# Altium integrated library Linear Technology Operational Amplifiers (LT1000).IntLib: 2280 symbols (part 16 of 79)
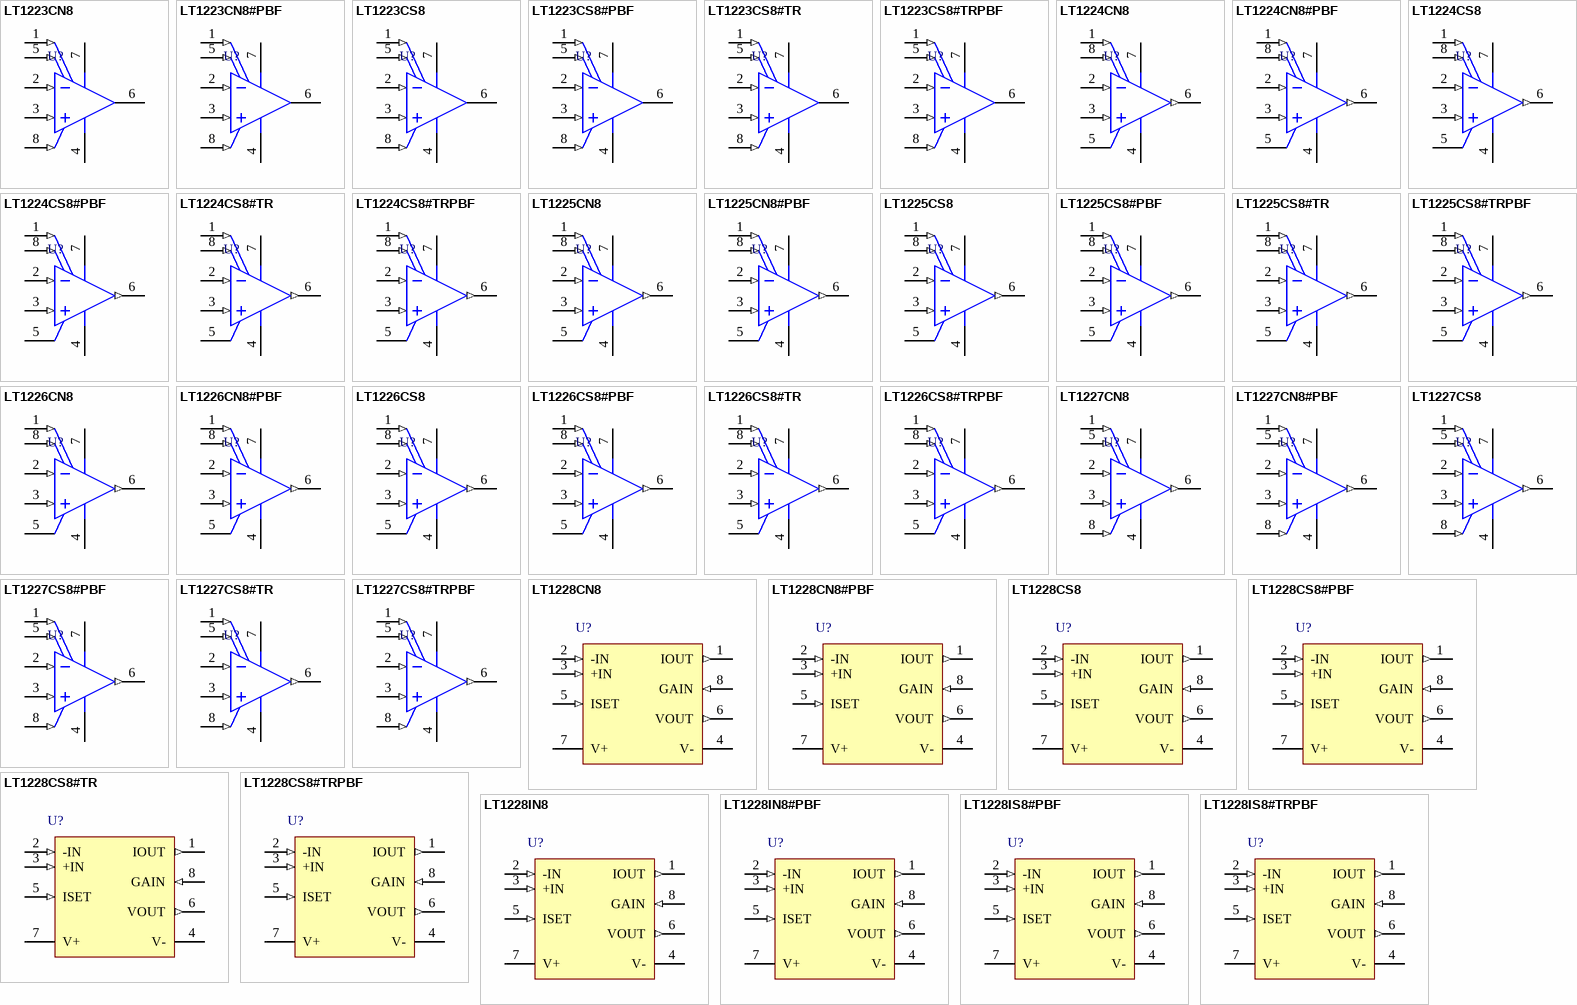
[diagram p120: symbols LT1223CN8 to LT1228IS8#TRPBF]

## LT1227CS8#PBF
designator U?
Single Channel, High Voltage CFA, 140 MHz Typical GBW, 1100 V/us Typical SR, 4 to 36 V, 8-Pin SOIC (S8-8), Commercial, Pb-Free; Linear Technology Part Number: LT1227; Manufacturer: Linear Technology; PartNumber: LT1227CS8#PBF; Channels (#): 1; GBW (MHz) Typical: 140; Is (mA) Typical: 10; SR (V/us) Typical: 1100; Vos (mV) Typical: 3; Vs Max (V): 36; Vs Min (V): 4; PackageVersion: Rev G; PackageReference: LT-S8-8; PackageDescription: 8-Pin Plastic Small Outline, Body 4.9 x 3.9 mm, Pitch 1.27 mm; Supplier 1: Digi-Key; Supplier Part Number 1: LT1227CS8#PBF-ND; Supplier 2: Farnell; Supplier Part Number 2: 9560319; Supplier 3: Newark; Supplier Part Number 3: 57M2839; RoHS: Pb-Free; Type: CFA; Mounting Technology: Surface Mount; ComponentLink1Description: Manufacturer URL; ComponentLink1URL: http://www.linear.com/; ComponentLink2Description: Datasheet; ComponentLink2URL: http://cds.linear.com/docs/en/datasheet/1227fb.pdf; ComponentLink3Description: Package Specification; ComponentLink3URL: http://cds.linear.com/docs/en/packaging/05081610_G_SO8.pdf
footprint LT-S8-8_N (SOIC, 8-Leads, Body 4.9x3.9mm, Pitch 1.27mm, IPC Medium Density)
footprint LT-S8-8_L (SOIC, 8-Leads, Body 4.9x3.9mm, Pitch 1.27mm, IPC High Density)
footprint LT-S8-8_M (SOIC, 8-Leads, Body 4.9x3.9mm, Pitch 1.27mm, IPC Low Density)
pins: 1 NULL (in), 2 -IN (in), 3 +IN (in), 4 V- (power), 5 NULL (in), 6 OUT (out), 7 V+ (power), 8 SHDN (in)

## LT1227CS8#TR
designator U?
Single Channel, High Voltage CFA, 140 MHz Typical GBW, 1100 V/us Typical SR, 4 to 36 V, 8-Pin SOIC (S8-8), Commercial, Reel; Linear Technology Part Number: LT1227; Manufacturer: Linear Technology; PartNumber: LT1227CS8#TR; Channels (#): 1; GBW (MHz) Typical: 140; Is (mA) Typical: 10; SR (V/us) Typical: 1100; Vos (mV) Typical: 3; Vs Max (V): 36; Vs Min (V): 4; PackageVersion: Rev G; PackageReference: LT-S8-8; PackageDescription: 8-Pin Plastic Small Outline, Body 4.9 x 3.9 mm, Pitch 1.27 mm; Supplier 1: Digi-Key; Supplier Part Number 1: LT1227CS8#TR-ND; Packing: Reel; Type: CFA; Mounting Technology: Surface Mount; ComponentLink1Description: Manufacturer URL; ComponentLink1URL: http://www.linear.com/; ComponentLink2Description: Datasheet; ComponentLink2URL: http://cds.linear.com/docs/en/datasheet/1227fb.pdf; ComponentLink3Description: Package Specification; ComponentLink3URL: http://cds.linear.com/docs/en/packaging/05081610_G_SO8.pdf
footprint LT-S8-8_N (SOIC, 8-Leads, Body 4.9x3.9mm, Pitch 1.27mm, IPC Medium Density)
footprint LT-S8-8_L (SOIC, 8-Leads, Body 4.9x3.9mm, Pitch 1.27mm, IPC High Density)
footprint LT-S8-8_M (SOIC, 8-Leads, Body 4.9x3.9mm, Pitch 1.27mm, IPC Low Density)
pins: 1 NULL (in), 2 -IN (in), 3 +IN (in), 4 V- (power), 5 NULL (in), 6 OUT (out), 7 V+ (power), 8 SHDN (in)

## LT1227CS8#TRPBF
designator U?
Single Channel, High Voltage CFA, 140 MHz Typical GBW, 1100 V/us Typical SR, 4 to 36 V, 8-Pin SOIC (S8-8), Commercial, Pb-Free, Reel; Linear Technology Part Number: LT1227; Manufacturer: Linear Technology; PartNumber: LT1227CS8#TRPBF; Channels (#): 1; GBW (MHz) Typical: 140; Is (mA) Typical: 10; SR (V/us) Typical: 1100; Vos (mV) Typical: 3; Vs Max (V): 36; Vs Min (V): 4; PackageVersion: Rev G; PackageReference: LT-S8-8; PackageDescription: 8-Pin Plastic Small Outline, Body 4.9 x 3.9 mm, Pitch 1.27 mm; Supplier 1: Digi-Key; Supplier Part Number 1: LT1227CS8#TRPBF-ND; Supplier 2: Newark; Supplier Part Number 2: 57M2841; Packing: Reel; RoHS: Pb-Free; Type: CFA; Mounting Technology: Surface Mount; ComponentLink1Description: Manufacturer URL; ComponentLink1URL: http://www.linear.com/; ComponentLink2Description: Datasheet; ComponentLink2URL: http://cds.linear.com/docs/en/datasheet/1227fb.pdf; ComponentLink3Description: Package Specification; ComponentLink3URL: http://cds.linear.com/docs/en/packaging/05081610_G_SO8.pdf
footprint LT-S8-8_N (SOIC, 8-Leads, Body 4.9x3.9mm, Pitch 1.27mm, IPC Medium Density)
footprint LT-S8-8_L (SOIC, 8-Leads, Body 4.9x3.9mm, Pitch 1.27mm, IPC High Density)
footprint LT-S8-8_M (SOIC, 8-Leads, Body 4.9x3.9mm, Pitch 1.27mm, IPC Low Density)
pins: 1 NULL (in), 2 -IN (in), 3 +IN (in), 4 V- (power), 5 NULL (in), 6 OUT (out), 7 V+ (power), 8 SHDN (in)

## LT1228CN8
designator U?
Single Channel, CFA with Gain Control, 100 MHz Typical GBW, 500 V/us Typical SR, 4 to 36 V, 8-Pin DIP (N8-8), Commercial; Linear Technology Part Number: LT1228; Manufacturer: Linear Technology; PartNumber: LT1228CN8; Channels (#): 1; GBW (MHz) Typical: 100; Is (mA) Typical: 9; SR (V/us) Typical: 500; Vos (mV) Typical: 0.5; Vs Max (V): 36; Vs Min (V): 4; DatasheetVersion: Rev. D; PackageVersion: Rev I; PackageReference: LT-N8-8; PackageDescription: 8-Lead PDIP, Body 10.16 x 6.48 mm, Pitch 2.54 mm; Supplier 1: Digi-Key; Supplier Part Number 1: LT1228CN8-ND; Type: CFA; Mounting Technology: Surface Mount; ComponentLink1Description: Manufacturer URL; ComponentLink1URL: http://www.linear.com/; ComponentLink2Description: Datasheet; ComponentLink2URL: http://cds.linear.com/docs/en/datasheet/1228fd.pdf; ComponentLink3Description: Package Specification; ComponentLink3URL: http://cds.linear.com/docs/en/packaging/05081510_I_N8.pdf
footprint LT-N8-8 (DIP, 8-Leads, Body 10.16x6.48mm, Pitch 2.54mm)
pins: 1 IOUT (out), 2 -IN (in), 3 +IN (in), 4 V- (power), 5 ISET (in), 6 VOUT (out), 7 V+ (power), 8 GAIN (in)

## LT1228CN8#PBF
designator U?
Single Channel, CFA with Gain Control, 100 MHz Typical GBW, 500 V/us Typical SR, 4 to 36 V, 8-Pin DIP (N8-8), Commercial, Pb-Free; Linear Technology Part Number: LT1228; Manufacturer: Linear Technology; PartNumber: LT1228CN8#PBF; Channels (#): 1; GBW (MHz) Typical: 100; Is (mA) Typical: 9; SR (V/us) Typical: 500; Vos (mV) Typical: 0.5; Vs Max (V): 36; Vs Min (V): 4; DatasheetVersion: Rev. D; PackageVersion: Rev I; PackageReference: LT-N8-8; PackageDescription: 8-Lead PDIP, Body 10.16 x 6.48 mm, Pitch 2.54 mm; Supplier 1: Digi-Key; Supplier Part Number 1: LT1228CN8#PBF-ND; Supplier 2: Farnell; Supplier Part Number 2: 9560327; RoHS: Pb-Free; Type: CFA; Mounting Technology: Through Hole; ComponentLink1Description: Manufacturer URL; ComponentLink1URL: http://www.linear.com/; ComponentLink2Description: Datasheet; ComponentLink2URL: http://cds.linear.com/docs/en/datasheet/1228fd.pdf; ComponentLink3Description: Package Specification; ComponentLink3URL: http://cds.linear.com/docs/en/packaging/05081510_I_N8.pdf
footprint LT-N8-8 (DIP, 8-Leads, Body 10.16x6.48mm, Pitch 2.54mm)
pins: 1 IOUT (out), 2 -IN (in), 3 +IN (in), 4 V- (power), 5 ISET (in), 6 VOUT (out), 7 V+ (power), 8 GAIN (in)

## LT1228CS8
designator U?
Single Channel, CFA with Gain Control, 100 MHz Typical GBW, 500 V/us Typical SR, 4 to 36 V, 8-Pin SOIC (S8-8), Commercial; Linear Technology Part Number: LT1228; Manufacturer: Linear Technology; PartNumber: LT1228CS8; Channels (#): 1; GBW (MHz) Typical: 100; Is (mA) Typical: 9; SR (V/us) Typical: 500; Vos (mV) Typical: 0.5; Vs Max (V): 36; Vs Min (V): 4; DatasheetVersion: Rev. D; PackageVersion: Rev G; PackageReference: LT-S8-8; PackageDescription: 8-Pin Plastic Small Outline, Body 4.9 x 3.9 mm, Pitch 1.27 mm; Supplier 1: Digi-Key; Supplier Part Number 1: LT1228CS8-ND; Type: CFA; Mounting Technology: Surface Mount; ComponentLink1Description: Manufacturer URL; ComponentLink1URL: http://www.linear.com/; ComponentLink2Description: Datasheet; ComponentLink2URL: http://cds.linear.com/docs/en/datasheet/1228fd.pdf; ComponentLink3Description: Package Specification; ComponentLink3URL: http://cds.linear.com/docs/en/packaging/05081610_G_SO8.pdf
footprint LT-S8-8_N (SOIC, 8-Leads, Body 4.9x3.9mm, Pitch 1.27mm, IPC Medium Density)
footprint LT-S8-8_L (SOIC, 8-Leads, Body 4.9x3.9mm, Pitch 1.27mm, IPC High Density)
footprint LT-S8-8_M (SOIC, 8-Leads, Body 4.9x3.9mm, Pitch 1.27mm, IPC Low Density)
pins: 1 IOUT (out), 2 -IN (in), 3 +IN (in), 4 V- (power), 5 ISET (in), 6 VOUT (out), 7 V+ (power), 8 GAIN (in)

## LT1228CS8#PBF
designator U?
Single Channel, CFA with Gain Control, 100 MHz Typical GBW, 500 V/us Typical SR, 4 to 36 V, 8-Pin SOIC (S8-8), Commercial, Pb-Free; Linear Technology Part Number: LT1228; Manufacturer: Linear Technology; PartNumber: LT1228CS8#PBF; Channels (#): 1; GBW (MHz) Typical: 100; Is (mA) Typical: 9; SR (V/us) Typical: 500; Vos (mV) Typical: 0.5; Vs Max (V): 36; Vs Min (V): 4; DatasheetVersion: Rev. D; PackageVersion: Rev G; PackageReference: LT-S8-8; PackageDescription: 8-Pin Plastic Small Outline, Body 4.9 x 3.9 mm, Pitch 1.27 mm; Supplier 1: Digi-Key; Supplier Part Number 1: LT1228CS8#PBF-ND; Supplier 2: Farnell; Supplier Part Number 2: 9560335; Supplier 3: Newark; Supplier Part Number 3: 57M2845; RoHS: Pb-Free; Type: CFA; Mounting Technology: Surface Mount; ComponentLink1Description: Manufacturer URL; ComponentLink1URL: http://www.linear.com/; ComponentLink2Description: Datasheet; ComponentLink2URL: http://cds.linear.com/docs/en/datasheet/1228fd.pdf; ComponentLink3Description: Package Specification; ComponentLink3URL: http://cds.linear.com/docs/en/packaging/05081610_G_SO8.pdf
footprint LT-S8-8_N (SOIC, 8-Leads, Body 4.9x3.9mm, Pitch 1.27mm, IPC Medium Density)
footprint LT-S8-8_L (SOIC, 8-Leads, Body 4.9x3.9mm, Pitch 1.27mm, IPC High Density)
footprint LT-S8-8_M (SOIC, 8-Leads, Body 4.9x3.9mm, Pitch 1.27mm, IPC Low Density)
pins: 1 IOUT (out), 2 -IN (in), 3 +IN (in), 4 V- (power), 5 ISET (in), 6 VOUT (out), 7 V+ (power), 8 GAIN (in)

## LT1228CS8#TR
designator U?
Single Channel, CFA with Gain Control, 100 MHz Typical GBW, 500 V/us Typical SR, 4 to 36 V, 8-Pin SOIC (S8-8), Commercial, Reel; Linear Technology Part Number: LT1228; Manufacturer: Linear Technology; PartNumber: LT1228CS8#TR; Channels (#): 1; GBW (MHz) Typical: 100; Is (mA) Typical: 9; SR (V/us) Typical: 500; Vos (mV) Typical: 0.5; Vs Max (V): 36; Vs Min (V): 4; DatasheetVersion: Rev. D; PackageVersion: Rev G; PackageReference: LT-S8-8; PackageDescription: 8-Pin Plastic Small Outline, Body 4.9 x 3.9 mm, Pitch 1.27 mm; Supplier 1: Digi-Key; Supplier Part Number 1: LT1228CS8#TR-ND; Packing: Reel; Type: CFA; Mounting Technology: Surface Mount; ComponentLink1Description: Manufacturer URL; ComponentLink1URL: http://www.linear.com/; ComponentLink2Description: Datasheet; ComponentLink2URL: http://cds.linear.com/docs/en/datasheet/1228fd.pdf; ComponentLink3Description: Package Specification; ComponentLink3URL: http://cds.linear.com/docs/en/packaging/05081610_G_SO8.pdf
footprint LT-S8-8_N (SOIC, 8-Leads, Body 4.9x3.9mm, Pitch 1.27mm, IPC Medium Density)
footprint LT-S8-8_L (SOIC, 8-Leads, Body 4.9x3.9mm, Pitch 1.27mm, IPC High Density)
footprint LT-S8-8_M (SOIC, 8-Leads, Body 4.9x3.9mm, Pitch 1.27mm, IPC Low Density)
pins: 1 IOUT (out), 2 -IN (in), 3 +IN (in), 4 V- (power), 5 ISET (in), 6 VOUT (out), 7 V+ (power), 8 GAIN (in)

## LT1228CS8#TRPBF
designator U?
Single Channel, CFA with Gain Control, 100 MHz Typical GBW, 500 V/us Typical SR, 4 to 36 V, 8-Pin SOIC (S8-8), Commercial, Pb-Free, Reel; Linear Technology Part Number: LT1228; Manufacturer: Linear Technology; PartNumber: LT1228CS8#TRPBF; Channels (#): 1; GBW (MHz) Typical: 100; Is (mA) Typical: 9; SR (V/us) Typical: 500; Vos (mV) Typical: 0.5; Vs Max (V): 36; Vs Min (V): 4; DatasheetVersion: Rev. D; PackageVersion: Rev G; PackageReference: LT-S8-8; PackageDescription: 8-Pin Plastic Small Outline, Body 4.9 x 3.9 mm, Pitch 1.27 mm; Supplier 1: Digi-Key; Supplier Part Number 1: LT1228CS8#TRPBF-ND; Packing: Reel; RoHS: Pb-Free; Type: CFA; Mounting Technology: Surface Mount; ComponentLink1Description: Manufacturer URL; ComponentLink1URL: http://www.linear.com/; ComponentLink2Description: Datasheet; ComponentLink2URL: http://cds.linear.com/docs/en/datasheet/1228fd.pdf; ComponentLink3Description: Package Specification; ComponentLink3URL: http://cds.linear.com/docs/en/packaging/05081610_G_SO8.pdf
footprint LT-S8-8_N (SOIC, 8-Leads, Body 4.9x3.9mm, Pitch 1.27mm, IPC Medium Density)
footprint LT-S8-8_L (SOIC, 8-Leads, Body 4.9x3.9mm, Pitch 1.27mm, IPC High Density)
footprint LT-S8-8_M (SOIC, 8-Leads, Body 4.9x3.9mm, Pitch 1.27mm, IPC Low Density)
pins: 1 IOUT (out), 2 -IN (in), 3 +IN (in), 4 V- (power), 5 ISET (in), 6 VOUT (out), 7 V+ (power), 8 GAIN (in)

## LT1228IN8
designator U?
Single Channel, CFA with Gain Control, 100 MHz Typical GBW, 500 V/us Typical SR, 4 to 36 V, 8-Pin DIP (N8-8), Industrial; Linear Technology Part Number: LT1228; Manufacturer: Linear Technology; PartNumber: LT1228IN8; Channels (#): 1; GBW (MHz) Typical: 100; Is (mA) Typical: 9; SR (V/us) Typical: 500; Vos (mV) Typical: 0.5; Vs Max (V): 36; Vs Min (V): 4; DatasheetVersion: Rev. D; PackageVersion: Rev I; PackageReference: LT-N8-8; PackageDescription: 8-Lead PDIP, Body 10.16 x 6.48 mm, Pitch 2.54 mm; Type: CFA; Mounting Technology: Surface Mount; ComponentLink1Description: Manufacturer URL; ComponentLink1URL: http://www.linear.com/; ComponentLink2Description: Datasheet; ComponentLink2URL: http://cds.linear.com/docs/en/datasheet/1228fd.pdf; ComponentLink3Description: Package Specification; ComponentLink3URL: http://cds.linear.com/docs/en/packaging/05081510_I_N8.pdf
footprint LT-N8-8 (DIP, 8-Leads, Body 10.16x6.48mm, Pitch 2.54mm)
pins: 1 IOUT (out), 2 -IN (in), 3 +IN (in), 4 V- (power), 5 ISET (in), 6 VOUT (out), 7 V+ (power), 8 GAIN (in)

## LT1228IN8#PBF
designator U?
Single Channel, CFA with Gain Control, 100 MHz Typical GBW, 500 V/us Typical SR, 4 to 36 V, 8-Pin DIP (N8-8), Industrial, Pb-Free; Linear Technology Part Number: LT1228; Manufacturer: Linear Technology; PartNumber: LT1228IN8#PBF; Channels (#): 1; GBW (MHz) Typical: 100; Is (mA) Typical: 9; SR (V/us) Typical: 500; Vos (mV) Typical: 0.5; Vs Max (V): 36; Vs Min (V): 4; DatasheetVersion: Rev. D; PackageVersion: Rev I; PackageReference: LT-N8-8; PackageDescription: 8-Lead PDIP, Body 10.16 x 6.48 mm, Pitch 2.54 mm; Supplier 1: Digi-Key; Supplier Part Number 1: LT1228IN8#PBF-ND; RoHS: Pb-Free; Type: CFA; Mounting Technology: Through Hole; ComponentLink1Description: Manufacturer URL; ComponentLink1URL: http://www.linear.com/; ComponentLink2Description: Datasheet; ComponentLink2URL: http://cds.linear.com/docs/en/datasheet/1228fd.pdf; ComponentLink3Description: Package Specification; ComponentLink3URL: http://cds.linear.com/docs/en/packaging/05081510_I_N8.pdf
footprint LT-N8-8 (DIP, 8-Leads, Body 10.16x6.48mm, Pitch 2.54mm)
pins: 1 IOUT (out), 2 -IN (in), 3 +IN (in), 4 V- (power), 5 ISET (in), 6 VOUT (out), 7 V+ (power), 8 GAIN (in)

## LT1228IS8#PBF
designator U?
Single Channel, CFA with Gain Control, 100 MHz Typical GBW, 500 V/us Typical SR, 4 to 36 V, 8-Pin SOIC (S8-8), Industrial, Pb-Free; Linear Technology Part Number: LT1228; Manufacturer: Linear Technology; PartNumber: LT1228IS8#PBF; Channels (#): 1; GBW (MHz) Typical: 100; Is (mA) Typical: 9; SR (V/us) Typical: 500; Vos (mV) Typical: 0.5; Vs Max (V): 36; Vs Min (V): 4; DatasheetVersion: Rev. D; PackageVersion: Rev G; PackageReference: LT-S8-8; PackageDescription: 8-Pin Plastic Small Outline, Body 4.9 x 3.9 mm, Pitch 1.27 mm; Supplier 1: Digi-Key; Supplier Part Number 1: LT1228IS8#PBF-ND; RoHS: Pb-Free; Type: CFA; Mounting Technology: Surface Mount; ComponentLink1Description: Manufacturer URL; ComponentLink1URL: http://www.linear.com/; ComponentLink2Description: Datasheet; ComponentLink2URL: http://cds.linear.com/docs/en/datasheet/1228fd.pdf; ComponentLink3Description: Package Specification; ComponentLink3URL: http://cds.linear.com/docs/en/packaging/05081610_G_SO8.pdf
footprint LT-S8-8_N (SOIC, 8-Leads, Body 4.9x3.9mm, Pitch 1.27mm, IPC Medium Density)
footprint LT-S8-8_L (SOIC, 8-Leads, Body 4.9x3.9mm, Pitch 1.27mm, IPC High Density)
footprint LT-S8-8_M (SOIC, 8-Leads, Body 4.9x3.9mm, Pitch 1.27mm, IPC Low Density)
pins: 1 IOUT (out), 2 -IN (in), 3 +IN (in), 4 V- (power), 5 ISET (in), 6 VOUT (out), 7 V+ (power), 8 GAIN (in)

## LT1228IS8#TRPBF
designator U?
Single Channel, CFA with Gain Control, 100 MHz Typical GBW, 500 V/us Typical SR, 4 to 36 V, 8-Pin SOIC (S8-8), Industrial, Pb-Free, Reel; Linear Technology Part Number: LT1228; Manufacturer: Linear Technology; PartNumber: LT1228IS8#TRPBF; Channels (#): 1; GBW (MHz) Typical: 100; Is (mA) Typical: 9; SR (V/us) Typical: 500; Vos (mV) Typical: 0.5; Vs Max (V): 36; Vs Min (V): 4; DatasheetVersion: Rev. D; PackageVersion: Rev G; PackageReference: LT-S8-8; PackageDescription: 8-Pin Plastic Small Outline, Body 4.9 x 3.9 mm, Pitch 1.27 mm; Supplier 1: Digi-Key; Supplier Part Number 1: LT1228IS8#TRPBF-ND; Packing: Reel; RoHS: Pb-Free; Type: CFA; Mounting Technology: Surface Mount; ComponentLink1Description: Manufacturer URL; ComponentLink1URL: http://www.linear.com/; ComponentLink2Description: Datasheet; ComponentLink2URL: http://cds.linear.com/docs/en/datasheet/1228fd.pdf; ComponentLink3Description: Package Specification; ComponentLink3URL: http://cds.linear.com/docs/en/packaging/05081610_G_SO8.pdf
footprint LT-S8-8_N (SOIC, 8-Leads, Body 4.9x3.9mm, Pitch 1.27mm, IPC Medium Density)
footprint LT-S8-8_L (SOIC, 8-Leads, Body 4.9x3.9mm, Pitch 1.27mm, IPC High Density)
footprint LT-S8-8_M (SOIC, 8-Leads, Body 4.9x3.9mm, Pitch 1.27mm, IPC Low Density)
pins: 1 IOUT (out), 2 -IN (in), 3 +IN (in), 4 V- (power), 5 ISET (in), 6 VOUT (out), 7 V+ (power), 8 GAIN (in)

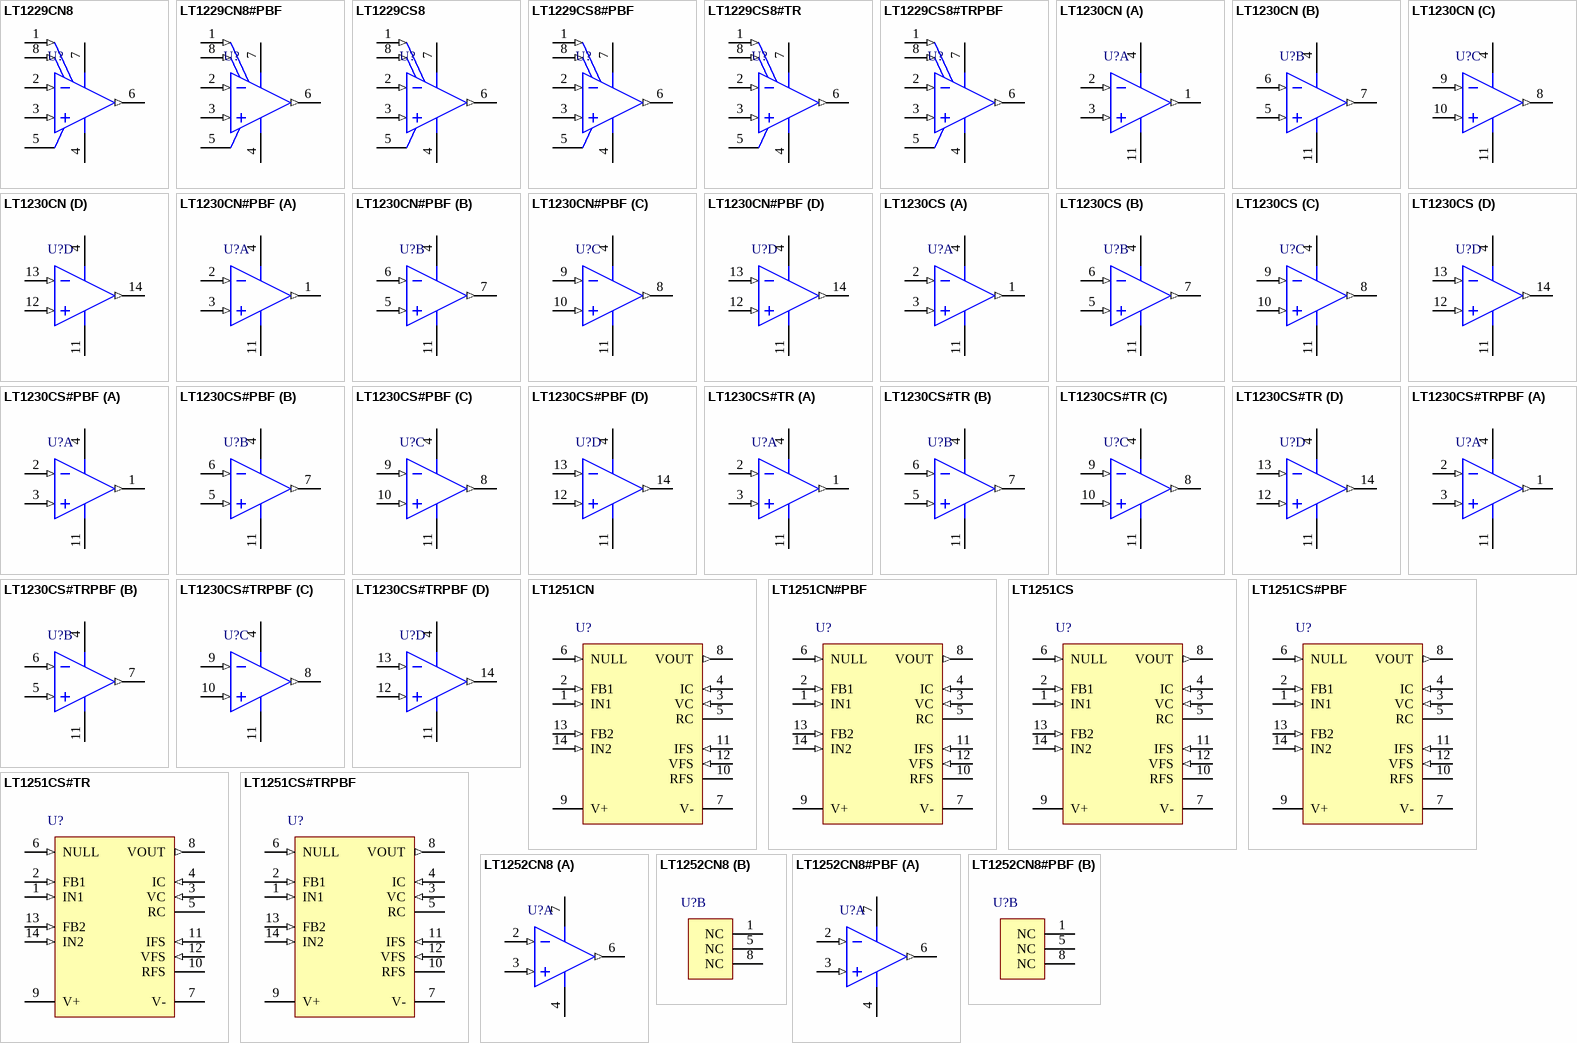
[diagram p22: symbols LT1229CN8 to LT1252CN8#PBF]

## LT1229CN8
designator U?
Dual Channel, General Purpose High Voltage CFA, 100 MHz Typical GBW, 700 V/us Typical SR, 4 to 36 V, 8-Pin DIP (N8-8), Commercial; Linear Technology Part Number: LT1229; Manufacturer: Linear Technology; PartNumber: LT1229CN8; Channels (#): 2; GBW (MHz) Typical: 100; Is (mA) Typical: 6; SR (V/us) Typical: 700; Vos (mV) Typical: 3; Vs Max (V): 36; Vs Min (V): 4; DatasheetVersion: Rev. B; PackageVersion: Rev I; PackageReference: LT-N8-8; PackageDescription: 8-Lead PDIP, Body 10.16 x 6.48 mm, Pitch 2.54 mm; Supplier 1: Digi-Key; Supplier Part Number 1: LT1229CN8-ND; Type: CFA; Mounting Technology: Surface Mount; ComponentLink1Description: Manufacturer URL; ComponentLink1URL: http://www.linear.com/; ComponentLink2Description: Datasheet; ComponentLink2URL: http://cds.linear.com/docs/en/datasheet/122930fa.pdf; ComponentLink3Description: Package Specification; ComponentLink3URL: http://cds.linear.com/docs/en/packaging/05081510_I_N8.pdf
footprint LT-N8-8 (DIP, 8-Leads, Body 10.16x6.48mm, Pitch 2.54mm)
pins: 1 NULL (in), 2 -IN (in), 3 +IN (in), 4 V- (power), 5 NC, 6 OUT (out), 7 V+ (power), 8 NULL (in)

## LT1229CN8#PBF
designator U?
Dual Channel, General Purpose High Voltage CFA, 100 MHz Typical GBW, 700 V/us Typical SR, 4 to 36 V, 8-Pin DIP (N8-8), Commercial, Pb-Free; Linear Technology Part Number: LT1229; Manufacturer: Linear Technology; PartNumber: LT1229CN8#PBF; Channels (#): 2; GBW (MHz) Typical: 100; Is (mA) Typical: 6; SR (V/us) Typical: 700; Vos (mV) Typical: 3; Vs Max (V): 36; Vs Min (V): 4; DatasheetVersion: Rev. B; PackageVersion: Rev I; PackageReference: LT-N8-8; PackageDescription: 8-Lead PDIP, Body 10.16 x 6.48 mm, Pitch 2.54 mm; Supplier 1: Digi-Key; Supplier Part Number 1: LT1229CN8#PBF-ND; Supplier 2: Farnell; Supplier Part Number 2: 1330625; Supplier 3: Newark; Supplier Part Number 3: 57M2850; RoHS: Pb-Free; Type: CFA; Mounting Technology: Through Hole; ComponentLink1Description: Manufacturer URL; ComponentLink1URL: http://www.linear.com/; ComponentLink2Description: Datasheet; ComponentLink2URL: http://cds.linear.com/docs/en/datasheet/122930fa.pdf; ComponentLink3Description: Package Specification; ComponentLink3URL: http://cds.linear.com/docs/en/packaging/05081510_I_N8.pdf
footprint LT-N8-8 (DIP, 8-Leads, Body 10.16x6.48mm, Pitch 2.54mm)
pins: 1 NULL (in), 2 -IN (in), 3 +IN (in), 4 V- (power), 5 NC, 6 OUT (out), 7 V+ (power), 8 NULL (in)

## LT1229CS8
designator U?
Dual Channel, General Purpose High Voltage CFA, 100 MHz Typical GBW, 700 V/us Typical SR, 4 to 36 V, 8-Pin SOIC (S8-8), Commercial; Linear Technology Part Number: LT1229; Manufacturer: Linear Technology; PartNumber: LT1229CS8; Channels (#): 2; GBW (MHz) Typical: 100; Is (mA) Typical: 6; SR (V/us) Typical: 700; Vos (mV) Typical: 3; Vs Max (V): 36; Vs Min (V): 4; DatasheetVersion: Rev. B; PackageVersion: Rev G; PackageReference: LT-S8-8; PackageDescription: 8-Pin Plastic Small Outline, Body 4.9 x 3.9 mm, Pitch 1.27 mm; Supplier 1: Digi-Key; Supplier Part Number 1: LT1229CS8-ND; Type: CFA; Mounting Technology: Surface Mount; ComponentLink1Description: Manufacturer URL; ComponentLink1URL: http://www.linear.com/; ComponentLink2Description: Datasheet; ComponentLink2URL: http://cds.linear.com/docs/en/datasheet/122930fa.pdf; ComponentLink3Description: Package Specification; ComponentLink3URL: http://cds.linear.com/docs/en/packaging/05081610_G_SO8.pdf
footprint LT-S8-8_N (SOIC, 8-Leads, Body 4.9x3.9mm, Pitch 1.27mm, IPC Medium Density)
footprint LT-S8-8_L (SOIC, 8-Leads, Body 4.9x3.9mm, Pitch 1.27mm, IPC High Density)
footprint LT-S8-8_M (SOIC, 8-Leads, Body 4.9x3.9mm, Pitch 1.27mm, IPC Low Density)
pins: 1 NULL (in), 2 -IN (in), 3 +IN (in), 4 V- (power), 5 NC, 6 OUT (out), 7 V+ (power), 8 NULL (in)

## LT1229CS8#PBF
designator U?
Dual Channel, General Purpose High Voltage CFA, 100 MHz Typical GBW, 700 V/us Typical SR, 4 to 36 V, 8-Pin SOIC (S8-8), Commercial, Pb-Free; Linear Technology Part Number: LT1229; Manufacturer: Linear Technology; PartNumber: LT1229CS8#PBF; Channels (#): 2; GBW (MHz) Typical: 100; Is (mA) Typical: 6; SR (V/us) Typical: 700; Vos (mV) Typical: 3; Vs Max (V): 36; Vs Min (V): 4; DatasheetVersion: Rev. B; PackageVersion: Rev G; PackageReference: LT-S8-8; PackageDescription: 8-Pin Plastic Small Outline, Body 4.9 x 3.9 mm, Pitch 1.27 mm; Supplier 1: Digi-Key; Supplier Part Number 1: LT1229CS8#PBF-ND; Supplier 2: Farnell; Supplier Part Number 2: 9560343; Supplier 3: Newark; Supplier Part Number 3: 57M2852; RoHS: Pb-Free; Type: CFA; Mounting Technology: Surface Mount; ComponentLink1Description: Manufacturer URL; ComponentLink1URL: http://www.linear.com/; ComponentLink2Description: Datasheet; ComponentLink2URL: http://cds.linear.com/docs/en/datasheet/122930fa.pdf; ComponentLink3Description: Package Specification; ComponentLink3URL: http://cds.linear.com/docs/en/packaging/05081610_G_SO8.pdf
footprint LT-S8-8_N (SOIC, 8-Leads, Body 4.9x3.9mm, Pitch 1.27mm, IPC Medium Density)
footprint LT-S8-8_L (SOIC, 8-Leads, Body 4.9x3.9mm, Pitch 1.27mm, IPC High Density)
footprint LT-S8-8_M (SOIC, 8-Leads, Body 4.9x3.9mm, Pitch 1.27mm, IPC Low Density)
pins: 1 NULL (in), 2 -IN (in), 3 +IN (in), 4 V- (power), 5 NC, 6 OUT (out), 7 V+ (power), 8 NULL (in)

## LT1229CS8#TR
designator U?
Dual Channel, General Purpose High Voltage CFA, 100 MHz Typical GBW, 700 V/us Typical SR, 4 to 36 V, 8-Pin SOIC (S8-8), Commercial, Reel; Linear Technology Part Number: LT1229; Manufacturer: Linear Technology; PartNumber: LT1229CS8#TR; Channels (#): 2; GBW (MHz) Typical: 100; Is (mA) Typical: 6; SR (V/us) Typical: 700; Vos (mV) Typical: 3; Vs Max (V): 36; Vs Min (V): 4; DatasheetVersion: Rev. B; PackageVersion: Rev G; PackageReference: LT-S8-8; PackageDescription: 8-Pin Plastic Small Outline, Body 4.9 x 3.9 mm, Pitch 1.27 mm; Supplier 1: Digi-Key; Supplier Part Number 1: LT1229CS8#TR-ND; Packing: Reel; Type: CFA; Mounting Technology: Surface Mount; ComponentLink1Description: Manufacturer URL; ComponentLink1URL: http://www.linear.com/; ComponentLink2Description: Datasheet; ComponentLink2URL: http://cds.linear.com/docs/en/datasheet/122930fa.pdf; ComponentLink3Description: Package Specification; ComponentLink3URL: http://cds.linear.com/docs/en/packaging/05081610_G_SO8.pdf
footprint LT-S8-8_N (SOIC, 8-Leads, Body 4.9x3.9mm, Pitch 1.27mm, IPC Medium Density)
footprint LT-S8-8_L (SOIC, 8-Leads, Body 4.9x3.9mm, Pitch 1.27mm, IPC High Density)
footprint LT-S8-8_M (SOIC, 8-Leads, Body 4.9x3.9mm, Pitch 1.27mm, IPC Low Density)
pins: 1 NULL (in), 2 -IN (in), 3 +IN (in), 4 V- (power), 5 NC, 6 OUT (out), 7 V+ (power), 8 NULL (in)

## LT1229CS8#TRPBF
designator U?
Dual Channel, General Purpose High Voltage CFA, 100 MHz Typical GBW, 700 V/us Typical SR, 4 to 36 V, 8-Pin SOIC (S8-8), Commercial, Pb-Free, Reel; Linear Technology Part Number: LT1229; Manufacturer: Linear Technology; PartNumber: LT1229CS8#TRPBF; Channels (#): 2; GBW (MHz) Typical: 100; Is (mA) Typical: 6; SR (V/us) Typical: 700; Vos (mV) Typical: 3; Vs Max (V): 36; Vs Min (V): 4; DatasheetVersion: Rev. B; PackageVersion: Rev G; PackageReference: LT-S8-8; PackageDescription: 8-Pin Plastic Small Outline, Body 4.9 x 3.9 mm, Pitch 1.27 mm; Supplier 1: Digi-Key; Supplier Part Number 1: LT1229CS8#TRPBF-ND; Packing: Reel; RoHS: Pb-Free; Type: CFA; Mounting Technology: Surface Mount; ComponentLink1Description: Manufacturer URL; ComponentLink1URL: http://www.linear.com/; ComponentLink2Description: Datasheet; ComponentLink2URL: http://cds.linear.com/docs/en/datasheet/122930fa.pdf; ComponentLink3Description: Package Specification; ComponentLink3URL: http://cds.linear.com/docs/en/packaging/05081610_G_SO8.pdf
footprint LT-S8-8_N (SOIC, 8-Leads, Body 4.9x3.9mm, Pitch 1.27mm, IPC Medium Density)
footprint LT-S8-8_L (SOIC, 8-Leads, Body 4.9x3.9mm, Pitch 1.27mm, IPC High Density)
footprint LT-S8-8_M (SOIC, 8-Leads, Body 4.9x3.9mm, Pitch 1.27mm, IPC Low Density)
pins: 1 NULL (in), 2 -IN (in), 3 +IN (in), 4 V- (power), 5 NC, 6 OUT (out), 7 V+ (power), 8 NULL (in)

## LT1230CN
designator U?
Quad Channel, General Purpose High Voltage CFA, 100 MHz Typical GBW, 700 V/us Typical SR, 4 to 36 V, 14-Pin DIP (N-14), Commercial; Linear Technology Part Number: LT1230; Manufacturer: Linear Technology; PartNumber: LT1230CN; Channels (#): 4; GBW (MHz) Typical: 100; Is (mA) Typical: 6; SR (V/us) Typical: 700; Vos (mV) Typical: 3; Vs Max (V): 36; DatasheetVersion: Rev. B; PackageVersion: Rev I; PackageReference: LT-N-14; PackageDescription: 14-Lead PDIP, Body 19.558 x 6.477 mm, Pitch 2.54 mm; Supplier 1: Digi-Key; Supplier Part Number 1: LT1230CN-ND; Type: CFA; Vs Min (V): 4; Mounting Technology: Surface Mount; ComponentLink1Description: Manufacturer URL; ComponentLink1URL: http://www.linear.com/; ComponentLink2Description: Datasheet; ComponentLink2URL: http://cds.linear.com/docs/en/datasheet/122930fa.pdf; ComponentLink3Description: Package Specification; ComponentLink3URL: http://cds.linear.com/docs/en/packaging/05081510_I_N14.pdf
footprint LT-N-14 (DIP, 14-Leads, Body 19.558x6.477mm, Pitch 2.54mm)
pins on every part: 4 V+ (power), 11 V- (power)
part A pins: 1 OUT A (out), 2 -IN A (in), 3 +IN A (in)
part B pins: 5 +IN B (in), 6 -IN B (in), 7 OUT B (out)
part C pins: 8 OUT C (out), 9 -IN C (in), 10 +IN C (in)
part D pins: 12 +IN D (in), 13 -IN D (in), 14 OUT D (out)

## LT1230CN#PBF
designator U?
Quad Channel, General Purpose High Voltage CFA, 100 MHz Typical GBW, 700 V/us Typical SR, 4 to 36 V, 14-Pin DIP (N-14), Commercial, Pb-Free; Linear Technology Part Number: LT1230; Manufacturer: Linear Technology; PartNumber: LT1230CN#PBF; Channels (#): 4; GBW (MHz) Typical: 100; Is (mA) Typical: 6; SR (V/us) Typical: 700; Vos (mV) Typical: 3; Vs Max (V): 36; DatasheetVersion: Rev. B; PackageVersion: Rev I; PackageReference: LT-N-14; PackageDescription: 14-Lead PDIP, Body 19.558 x 6.477 mm, Pitch 2.54 mm; Supplier 1: Digi-Key; Supplier Part Number 1: LT1230CN#PBF-ND; RoHS: Pb-Free; Type: CFA; Vs Min (V): 4; Mounting Technology: Through Hole; ComponentLink1Description: Manufacturer URL; ComponentLink1URL: http://www.linear.com/; ComponentLink2Description: Datasheet; ComponentLink2URL: http://cds.linear.com/docs/en/datasheet/122930fa.pdf; ComponentLink3Description: Package Specification; ComponentLink3URL: http://cds.linear.com/docs/en/packaging/05081510_I_N14.pdf
footprint LT-N-14 (DIP, 14-Leads, Body 19.558x6.477mm, Pitch 2.54mm)
pins on every part: 4 V+ (power), 11 V- (power)
part A pins: 1 OUT A (out), 2 -IN A (in), 3 +IN A (in)
part B pins: 5 +IN B (in), 6 -IN B (in), 7 OUT B (out)
part C pins: 8 OUT C (out), 9 -IN C (in), 10 +IN C (in)
part D pins: 12 +IN D (in), 13 -IN D (in), 14 OUT D (out)

## LT1230CS
designator U?
Quad Channel, General Purpose High Voltage CFA, 100 MHz Typical GBW, 700 V/us Typical SR, 4 to 36 V, 14-Pin SOIC (S-14), Commercial; Linear Technology Part Number: LT1230; Manufacturer: Linear Technology; PartNumber: LT1230CS; Channels (#): 4; GBW (MHz) Typical: 100; Is (mA) Typical: 6; SR (V/us) Typical: 700; Vos (mV) Typical: 3; Vs Max (V): 36; DatasheetVersion: Rev. B; PackageVersion: Rev G; PackageReference: LT-S-14; PackageDescription: 14-Lead Plastic Small Outline, Body 8.65 x 3.90 mm, Pitch 1.27 mm; Supplier 1: Newark; Supplier Part Number 1: 57M2857; Type: CFA; Vs Min (V): 4; Mounting Technology: Surface Mount; ComponentLink1Description: Manufacturer URL; ComponentLink1URL: http://www.linear.com/; ComponentLink2Description: Datasheet; ComponentLink2URL: http://cds.linear.com/docs/en/datasheet/122930fa.pdf; ComponentLink3Description: Package Specification; ComponentLink3URL: http://cds.linear.com/docs/en/packaging/05081610_G_S14.pdf
footprint LT-S-14_N (SOIC, 14-Leads, Body 8.65x3.90mm, Pitch 1.27mm, IPC Medium Density)
footprint LT-S-14_L (SOIC, 14-Leads, Body 8.65x3.90mm, Pitch 1.27mm, IPC High Density)
footprint LT-S-14_M (SOIC, 14-Leads, Body 8.65x3.90mm, Pitch 1.27mm, IPC Low Density)
pins on every part: 4 V+ (power), 11 V- (power)
part A pins: 1 OUT A (out), 2 -IN A (in), 3 +IN A (in)
part B pins: 5 +IN B (in), 6 -IN B (in), 7 OUT B (out)
part C pins: 8 OUT C (out), 9 -IN C (in), 10 +IN C (in)
part D pins: 12 +IN D (in), 13 -IN D (in), 14 OUT D (out)

## LT1230CS#PBF
designator U?
Quad Channel, General Purpose High Voltage CFA, 100 MHz Typical GBW, 700 V/us Typical SR, 4 to 36 V, 14-Pin SOIC (S-14), Commercial, Pb-Free; Linear Technology Part Number: LT1230; Manufacturer: Linear Technology; PartNumber: LT1230CS#PBF; Channels (#): 4; GBW (MHz) Typical: 100; Is (mA) Typical: 6; SR (V/us) Typical: 700; Vos (mV) Typical: 3; Vs Max (V): 36; DatasheetVersion: Rev. B; PackageVersion: Rev G; PackageReference: LT-S-14; PackageDescription: 14-Lead Plastic Small Outline, Body 8.65 x 3.90 mm, Pitch 1.27 mm; Supplier 1: Digi-Key; Supplier Part Number 1: LT1230CS#PBF-ND; Supplier 2: Newark; Supplier Part Number 2: 57M2858; RoHS: Pb-Free; Type: CFA; Vs Min (V): 4; Mounting Technology: Surface Mount; ComponentLink1Description: Manufacturer URL; ComponentLink1URL: http://www.linear.com/; ComponentLink2Description: Datasheet; ComponentLink2URL: http://cds.linear.com/docs/en/datasheet/122930fa.pdf; ComponentLink3Description: Package Specification; ComponentLink3URL: http://cds.linear.com/docs/en/packaging/05081610_G_S14.pdf
footprint LT-S-14_N (SOIC, 14-Leads, Body 8.65x3.90mm, Pitch 1.27mm, IPC Medium Density)
footprint LT-S-14_L (SOIC, 14-Leads, Body 8.65x3.90mm, Pitch 1.27mm, IPC High Density)
footprint LT-S-14_M (SOIC, 14-Leads, Body 8.65x3.90mm, Pitch 1.27mm, IPC Low Density)
pins on every part: 4 V+ (power), 11 V- (power)
part A pins: 1 OUT A (out), 2 -IN A (in), 3 +IN A (in)
part B pins: 5 +IN B (in), 6 -IN B (in), 7 OUT B (out)
part C pins: 8 OUT C (out), 9 -IN C (in), 10 +IN C (in)
part D pins: 12 +IN D (in), 13 -IN D (in), 14 OUT D (out)

## LT1230CS#TR
designator U?
Quad Channel, General Purpose High Voltage CFA, 100 MHz Typical GBW, 700 V/us Typical SR, 4 to 36 V, 14-Pin SOIC (S-14), Commercial, Reel; Linear Technology Part Number: LT1230; Manufacturer: Linear Technology; PartNumber: LT1230CS#TR; Channels (#): 4; GBW (MHz) Typical: 100; Is (mA) Typical: 6; SR (V/us) Typical: 700; Vos (mV) Typical: 3; Vs Max (V): 36; DatasheetVersion: Rev. B; PackageVersion: Rev G; PackageReference: LT-S-14; PackageDescription: 14-Lead Plastic Small Outline, Body 8.65 x 3.90 mm, Pitch 1.27 mm; Supplier 1: Digi-Key; Supplier Part Number 1: LT1230CS#TR-ND; Supplier 2: Newark; Supplier Part Number 2: 57M2859; Packing: Reel; Type: CFA; Vs Min (V): 4; Mounting Technology: Surface Mount; ComponentLink1Description: Manufacturer URL; ComponentLink1URL: http://www.linear.com/; ComponentLink2Description: Datasheet; ComponentLink2URL: http://cds.linear.com/docs/en/datasheet/122930fa.pdf; ComponentLink3Description: Package Specification; ComponentLink3URL: http://cds.linear.com/docs/en/packaging/05081610_G_S14.pdf
footprint LT-S-14_N (SOIC, 14-Leads, Body 8.65x3.90mm, Pitch 1.27mm, IPC Medium Density)
footprint LT-S-14_L (SOIC, 14-Leads, Body 8.65x3.90mm, Pitch 1.27mm, IPC High Density)
footprint LT-S-14_M (SOIC, 14-Leads, Body 8.65x3.90mm, Pitch 1.27mm, IPC Low Density)
pins on every part: 4 V+ (power), 11 V- (power)
part A pins: 1 OUT A (out), 2 -IN A (in), 3 +IN A (in)
part B pins: 5 +IN B (in), 6 -IN B (in), 7 OUT B (out)
part C pins: 8 OUT C (out), 9 -IN C (in), 10 +IN C (in)
part D pins: 12 +IN D (in), 13 -IN D (in), 14 OUT D (out)

## LT1230CS#TRPBF
designator U?
Quad Channel, General Purpose High Voltage CFA, 100 MHz Typical GBW, 700 V/us Typical SR, 4 to 36 V, 14-Pin SOIC (S-14), Commercial, Pb-Free, Reel; Linear Technology Part Number: LT1230; Manufacturer: Linear Technology; PartNumber: LT1230CS#TRPBF; Channels (#): 4; GBW (MHz) Typical: 100; Is (mA) Typical: 6; SR (V/us) Typical: 700; Vos (mV) Typical: 3; Vs Max (V): 36; DatasheetVersion: Rev. B; PackageVersion: Rev G; PackageReference: LT-S-14; PackageDescription: 14-Lead Plastic Small Outline, Body 8.65 x 3.90 mm, Pitch 1.27 mm; Supplier 1: Digi-Key; Supplier Part Number 1: LT1230CS#TRPBF-ND; Packing: Reel; RoHS: Pb-Free; Type: CFA; Vs Min (V): 4; Mounting Technology: Surface Mount; ComponentLink1Description: Manufacturer URL; ComponentLink1URL: http://www.linear.com/; ComponentLink2Description: Datasheet; ComponentLink2URL: http://cds.linear.com/docs/en/datasheet/122930fa.pdf; ComponentLink3Description: Package Specification; ComponentLink3URL: http://cds.linear.com/docs/en/packaging/05081610_G_S14.pdf
footprint LT-S-14_N (SOIC, 14-Leads, Body 8.65x3.90mm, Pitch 1.27mm, IPC Medium Density)
footprint LT-S-14_L (SOIC, 14-Leads, Body 8.65x3.90mm, Pitch 1.27mm, IPC High Density)
footprint LT-S-14_M (SOIC, 14-Leads, Body 8.65x3.90mm, Pitch 1.27mm, IPC Low Density)
pins on every part: 4 V+ (power), 11 V- (power)
part A pins: 1 OUT A (out), 2 -IN A (in), 3 +IN A (in)
part B pins: 5 +IN B (in), 6 -IN B (in), 7 OUT B (out)
part C pins: 8 OUT C (out), 9 -IN C (in), 10 +IN C (in)
part D pins: 12 +IN D (in), 13 -IN D (in), 14 OUT D (out)

## LT1251CN
designator U?
Single Channel, Video Fader Control Operational Amplifier, 40 MHz Typical GBW, 300 V/us Typical SR, 5 to 36 V, 14-Pin DIP (N-14), Commercial; Linear Technology Part Number: LT1251; Manufacturer: Linear Technology; PartNumber: LT1251CN; Channels (#): 1; GBW (MHz) Typical: 40; Is (mA) Typical: 13.5; SR (V/us) Typical: 300; Vos (mV) Typical: 2; Vs Max (V): 36; Vs Min (V): 5; DatasheetVersion: Rev. A; PackageVersion: Rev I; PackageReference: LT-N-14; PackageDescription: 14-Lead PDIP, Body 19.558 x 6.477 mm, Pitch 2.54 mm; Supplier 1: Digi-Key; Supplier Part Number 1: LT1251CN-ND; Type: CFA; Mounting Technology: Surface Mount; ComponentLink1Description: Manufacturer URL; ComponentLink1URL: http://www.linear.com/; ComponentLink2Description: Datasheet; ComponentLink2URL: http://cds.linear.com/docs/en/datasheet/12516fa.pdf; ComponentLink3Description: Package Specification; ComponentLink3URL: http://cds.linear.com/docs/en/packaging/05081510_I_N14.pdf
footprint LT-N-14 (DIP, 14-Leads, Body 19.558x6.477mm, Pitch 2.54mm)
pins: 1 IN1 (in), 2 FB1 (in), 3 VC (in), 4 IC (in), 5 RC, 6 NULL (in), 7 V- (power), 8 VOUT (out), 9 V+ (power), 10 RFS, 11 IFS (in), 12 VFS (in), 13 FB2 (in), 14 IN2 (in)

## LT1251CN#PBF
designator U?
Single Channel, Video Fader Control Operational Amplifier, 40 MHz Typical GBW, 300 V/us Typical SR, 5 to 36 V, 14-Pin DIP (N-14), Commercial, Pb-Free; Linear Technology Part Number: LT1251; Manufacturer: Linear Technology; PartNumber: LT1251CN#PBF; Channels (#): 1; GBW (MHz) Typical: 40; Is (mA) Typical: 13.5; SR (V/us) Typical: 300; Vos (mV) Typical: 2; Vs Max (V): 36; Vs Min (V): 5; DatasheetVersion: Rev. A; PackageVersion: Rev I; PackageReference: LT-N-14; PackageDescription: 14-Lead PDIP, Body 19.558 x 6.477 mm, Pitch 2.54 mm; Supplier 1: Digi-Key; Supplier Part Number 1: LT1251CN#PBF-ND; RoHS: Pb-Free; Type: CFA; Mounting Technology: Through Hole; ComponentLink1Description: Manufacturer URL; ComponentLink1URL: http://www.linear.com/; ComponentLink2Description: Datasheet; ComponentLink2URL: http://cds.linear.com/docs/en/datasheet/12516fa.pdf; ComponentLink3Description: Package Specification; ComponentLink3URL: http://cds.linear.com/docs/en/packaging/05081510_I_N14.pdf
footprint LT-N-14 (DIP, 14-Leads, Body 19.558x6.477mm, Pitch 2.54mm)
pins: 1 IN1 (in), 2 FB1 (in), 3 VC (in), 4 IC (in), 5 RC, 6 NULL (in), 7 V- (power), 8 VOUT (out), 9 V+ (power), 10 RFS, 11 IFS (in), 12 VFS (in), 13 FB2 (in), 14 IN2 (in)

## LT1251CS
designator U?
Single Channel, Video Fader Control Operational Amplifier, 40 MHz Typical GBW, 300 V/us Typical SR, 5 to 36 V, 14-Pin SOIC (S-14), Commercial; Linear Technology Part Number: LT1251; Manufacturer: Linear Technology; PartNumber: LT1251CS; Channels (#): 1; GBW (MHz) Typical: 40; Is (mA) Typical: 13.5; SR (V/us) Typical: 300; Vos (mV) Typical: 2; Vs Max (V): 36; Vs Min (V): 5; DatasheetVersion: Rev. A; PackageVersion: Rev G; PackageReference: LT-S-14; PackageDescription: 14-Lead Plastic Small Outline, Body 8.65 x 3.90 mm, Pitch 1.27 mm; Supplier 1: Digi-Key; Supplier Part Number 1: LT1251CS-ND; Type: CFA; Mounting Technology: Surface Mount; ComponentLink1Description: Manufacturer URL; ComponentLink1URL: http://www.linear.com/; ComponentLink2Description: Datasheet; ComponentLink2URL: http://cds.linear.com/docs/en/datasheet/12516fa.pdf; ComponentLink3Description: Package Specification; ComponentLink3URL: http://cds.linear.com/docs/en/packaging/05081610_G_S14.pdf
footprint LT-S-14_N (SOIC, 14-Leads, Body 8.65x3.90mm, Pitch 1.27mm, IPC Medium Density)
footprint LT-S-14_L (SOIC, 14-Leads, Body 8.65x3.90mm, Pitch 1.27mm, IPC High Density)
footprint LT-S-14_M (SOIC, 14-Leads, Body 8.65x3.90mm, Pitch 1.27mm, IPC Low Density)
pins: 1 IN1 (in), 2 FB1 (in), 3 VC (in), 4 IC (in), 5 RC, 6 NULL (in), 7 V- (power), 8 VOUT (out), 9 V+ (power), 10 RFS, 11 IFS (in), 12 VFS (in), 13 FB2 (in), 14 IN2 (in)

## LT1251CS#PBF
designator U?
Single Channel, Video Fader Control Operational Amplifier, 40 MHz Typical GBW, 300 V/us Typical SR, 5 to 36 V, 14-Pin SOIC (S-14), Commercial, Pb-Free; Linear Technology Part Number: LT1251; Manufacturer: Linear Technology; PartNumber: LT1251CS#PBF; Channels (#): 1; GBW (MHz) Typical: 40; Is (mA) Typical: 13.5; SR (V/us) Typical: 300; Vos (mV) Typical: 2; Vs Max (V): 36; Vs Min (V): 5; DatasheetVersion: Rev. A; PackageVersion: Rev G; PackageReference: LT-S-14; PackageDescription: 14-Lead Plastic Small Outline, Body 8.65 x 3.90 mm, Pitch 1.27 mm; Supplier 1: Digi-Key; Supplier Part Number 1: LT1251CS#PBF-ND; RoHS: Pb-Free; Type: CFA; Mounting Technology: Surface Mount; ComponentLink1Description: Manufacturer URL; ComponentLink1URL: http://www.linear.com/; ComponentLink2Description: Datasheet; ComponentLink2URL: http://cds.linear.com/docs/en/datasheet/12516fa.pdf; ComponentLink3Description: Package Specification; ComponentLink3URL: http://cds.linear.com/docs/en/packaging/05081610_G_S14.pdf
footprint LT-S-14_N (SOIC, 14-Leads, Body 8.65x3.90mm, Pitch 1.27mm, IPC Medium Density)
footprint LT-S-14_L (SOIC, 14-Leads, Body 8.65x3.90mm, Pitch 1.27mm, IPC High Density)
footprint LT-S-14_M (SOIC, 14-Leads, Body 8.65x3.90mm, Pitch 1.27mm, IPC Low Density)
pins: 1 IN1 (in), 2 FB1 (in), 3 VC (in), 4 IC (in), 5 RC, 6 NULL (in), 7 V- (power), 8 VOUT (out), 9 V+ (power), 10 RFS, 11 IFS (in), 12 VFS (in), 13 FB2 (in), 14 IN2 (in)

## LT1251CS#TR
designator U?
Single Channel, Video Fader Control Operational Amplifier, 40 MHz Typical GBW, 300 V/us Typical SR, 5 to 36 V, 14-Pin SOIC (S-14), Commercial, Reel; Linear Technology Part Number: LT1251; Manufacturer: Linear Technology; PartNumber: LT1251CS#TR; Channels (#): 1; GBW (MHz) Typical: 40; Is (mA) Typical: 13.5; SR (V/us) Typical: 300; Vos (mV) Typical: 2; Vs Max (V): 36; Vs Min (V): 5; DatasheetVersion: Rev. A; PackageVersion: Rev G; PackageReference: LT-S-14; PackageDescription: 14-Lead Plastic Small Outline, Body 8.65 x 3.90 mm, Pitch 1.27 mm; Supplier 1: Digi-Key; Supplier Part Number 1: LT1251CS#TR-ND; Packing: Reel; Type: CFA; Mounting Technology: Surface Mount; ComponentLink1Description: Manufacturer URL; ComponentLink1URL: http://www.linear.com/; ComponentLink2Description: Datasheet; ComponentLink2URL: http://cds.linear.com/docs/en/datasheet/12516fa.pdf; ComponentLink3Description: Package Specification; ComponentLink3URL: http://cds.linear.com/docs/en/packaging/05081610_G_S14.pdf
footprint LT-S-14_N (SOIC, 14-Leads, Body 8.65x3.90mm, Pitch 1.27mm, IPC Medium Density)
footprint LT-S-14_L (SOIC, 14-Leads, Body 8.65x3.90mm, Pitch 1.27mm, IPC High Density)
footprint LT-S-14_M (SOIC, 14-Leads, Body 8.65x3.90mm, Pitch 1.27mm, IPC Low Density)
pins: 1 IN1 (in), 2 FB1 (in), 3 VC (in), 4 IC (in), 5 RC, 6 NULL (in), 7 V- (power), 8 VOUT (out), 9 V+ (power), 10 RFS, 11 IFS (in), 12 VFS (in), 13 FB2 (in), 14 IN2 (in)

## LT1251CS#TRPBF
designator U?
Single Channel, Video Fader Control Operational Amplifier, 40 MHz Typical GBW, 300 V/us Typical SR, 5 to 36 V, 14-Pin SOIC (S-14), Commercial, Pb-Free, Reel; Linear Technology Part Number: LT1251; Manufacturer: Linear Technology; PartNumber: LT1251CS#TRPBF; Channels (#): 1; GBW (MHz) Typical: 40; Is (mA) Typical: 13.5; SR (V/us) Typical: 300; Vos (mV) Typical: 2; Vs Max (V): 36; Vs Min (V): 5; DatasheetVersion: Rev. A; PackageVersion: Rev G; PackageReference: LT-S-14; PackageDescription: 14-Lead Plastic Small Outline, Body 8.65 x 3.90 mm, Pitch 1.27 mm; Supplier 1: Digi-Key; Supplier Part Number 1: LT1251CS#TRPBF-ND; Packing: Reel; RoHS: Pb-Free; Type: CFA; Mounting Technology: Surface Mount; ComponentLink1Description: Manufacturer URL; ComponentLink1URL: http://www.linear.com/; ComponentLink2Description: Datasheet; ComponentLink2URL: http://cds.linear.com/docs/en/datasheet/12516fa.pdf; ComponentLink3Description: Package Specification; ComponentLink3URL: http://cds.linear.com/docs/en/packaging/05081610_G_S14.pdf
footprint LT-S-14_N (SOIC, 14-Leads, Body 8.65x3.90mm, Pitch 1.27mm, IPC Medium Density)
footprint LT-S-14_L (SOIC, 14-Leads, Body 8.65x3.90mm, Pitch 1.27mm, IPC High Density)
footprint LT-S-14_M (SOIC, 14-Leads, Body 8.65x3.90mm, Pitch 1.27mm, IPC Low Density)
pins: 1 IN1 (in), 2 FB1 (in), 3 VC (in), 4 IC (in), 5 RC, 6 NULL (in), 7 V- (power), 8 VOUT (out), 9 V+ (power), 10 RFS, 11 IFS (in), 12 VFS (in), 13 FB2 (in), 14 IN2 (in)

## LT1252CN8
designator U?
Single Channel, High voltage Video Operational Amplifier, 250 MHz Typical GBW, 250 V/us Typical SR, 4 to 28 V, 8-Pin DIP (N8-8), Commercial; Linear Technology Part Number: LT1252; Manufacturer: Linear Technology; PartNumber: LT1252CN8; Channels (#): 1; GBW (MHz) Typical: 250; Is (mA) Typical: 8.5; Vos (mV) Typical: 5; Vs Max (V): 28; Vs Min (V): 4; DatasheetVersion: Rev. A; PackageVersion: Rev I; PackageReference: LT-N8-8; PackageDescription: 8-Lead PDIP, Body 10.16 x 6.48 mm, Pitch 2.54 mm; Supplier 1: Digi-Key; Supplier Part Number 1: LT1252CN8-ND; SR (V/us) Typical: 250; Type: CFA; Mounting Technology: Surface Mount; ComponentLink1Description: Manufacturer URL; ComponentLink1URL: http://www.linear.com/; ComponentLink2Description: Datasheet; ComponentLink2URL: http://cds.linear.com/docs/en/datasheet/lt1252.pdf; ComponentLink3Description: Package Specification; ComponentLink3URL: http://cds.linear.com/docs/en/packaging/05081510_I_N8.pdf
footprint LT-N8-8 (DIP, 8-Leads, Body 10.16x6.48mm, Pitch 2.54mm)
part A pins: 2 -IN (in), 3 +IN (in), 4 V- (power), 6 OUT (out), 7 V+ (power)
part B pins: 1 NC, 5 NC, 8 NC

## LT1252CN8#PBF
designator U?
Single Channel, High voltage Video Operational Amplifier, 250 MHz Typical GBW, 250 V/us Typical SR, 4 to 28 V, 8-Pin DIP (N8-8), Commercial, Pb-Free; Linear Technology Part Number: LT1252; Manufacturer: Linear Technology; PartNumber: LT1252CN8#PBF; Channels (#): 1; GBW (MHz) Typical: 250; Is (mA) Typical: 8.5; Vos (mV) Typical: 5; Vs Max (V): 28; Vs Min (V): 4; DatasheetVersion: Rev. A; PackageVersion: Rev I; PackageReference: LT-N8-8; PackageDescription: 8-Lead PDIP, Body 10.16 x 6.48 mm, Pitch 2.54 mm; Supplier 1: Digi-Key; Supplier Part Number 1: LT1252CN8#PBF-ND; Supplier 2: Farnell; Supplier Part Number 2: 9560360; RoHS: Pb-Free; SR (V/us) Typical: 250; Type: CFA; Mounting Technology: Through Hole; ComponentLink1Description: Manufacturer URL; ComponentLink1URL: http://www.linear.com/; ComponentLink2Description: Datasheet; ComponentLink2URL: http://cds.linear.com/docs/en/datasheet/lt1252.pdf; ComponentLink3Description: Package Specification; ComponentLink3URL: http://cds.linear.com/docs/en/packaging/05081510_I_N8.pdf
footprint LT-N8-8 (DIP, 8-Leads, Body 10.16x6.48mm, Pitch 2.54mm)
part A pins: 2 -IN (in), 3 +IN (in), 4 V- (power), 6 OUT (out), 7 V+ (power)
part B pins: 1 NC, 5 NC, 8 NC

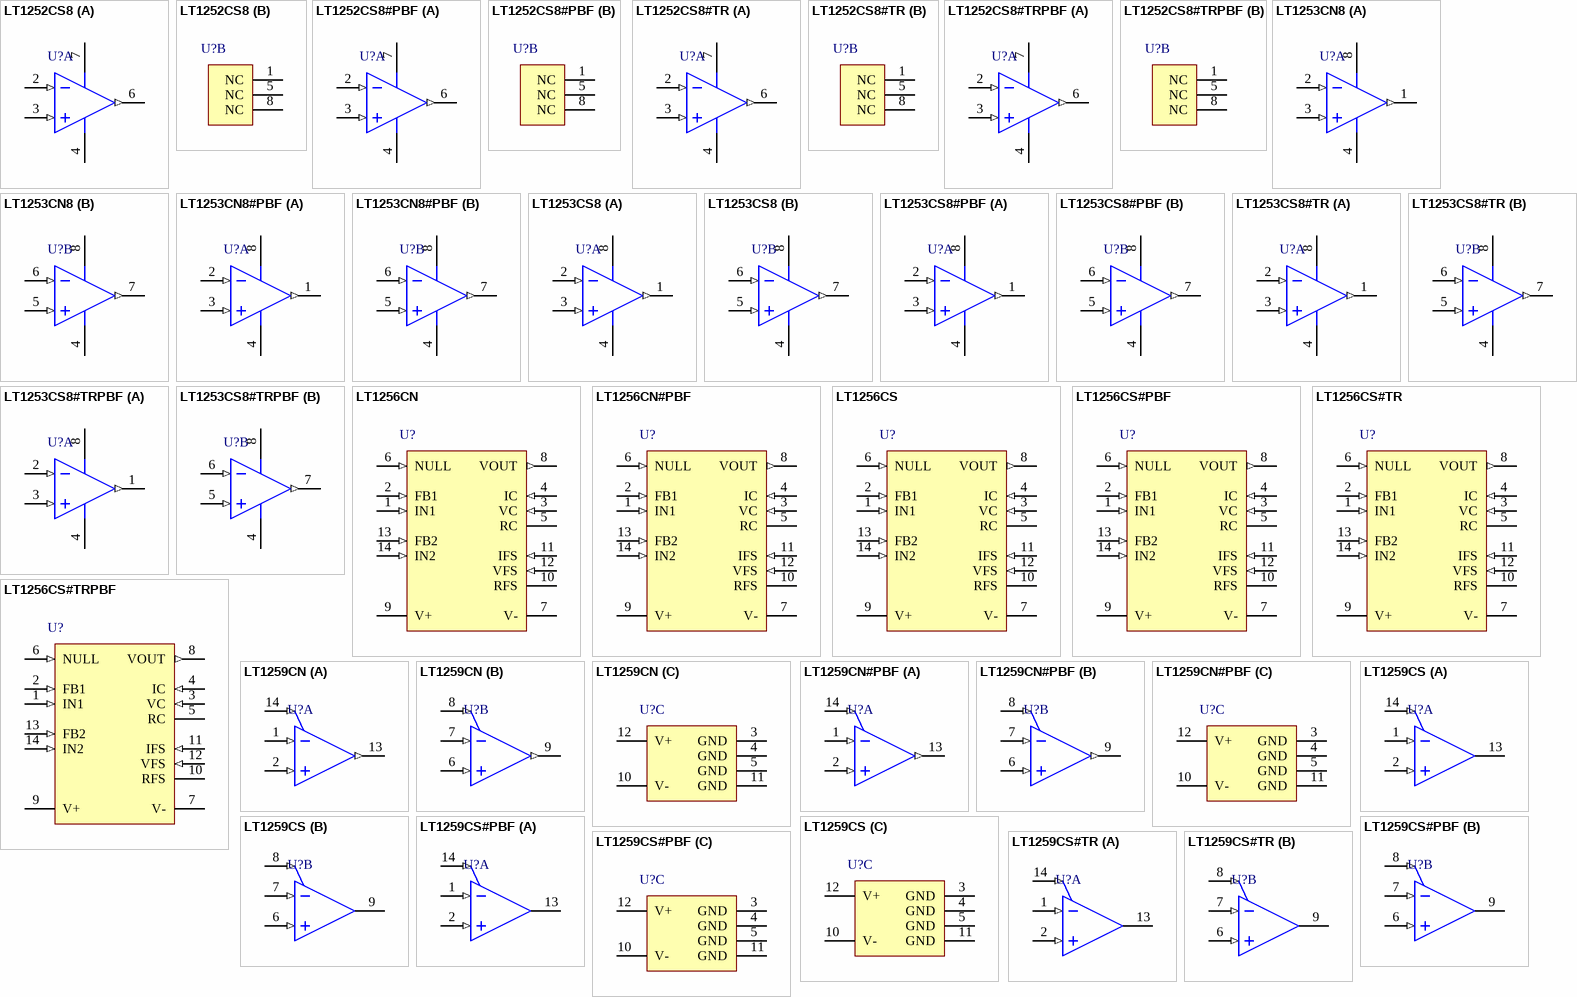
[diagram p23: symbols LT1252CS8 to LT1259CS#TR]

## LT1252CS8
designator U?
Single Channel, High voltage Video Operational Amplifier, 250 MHz Typical GBW, 250 V/us Typical SR, 4 to 28 V, 8-Pin SOIC (S8-8), Commercial; Linear Technology Part Number: LT1252; Manufacturer: Linear Technology; PartNumber: LT1252CS8; Channels (#): 1; GBW (MHz) Typical: 250; Is (mA) Typical: 8.5; Vos (mV) Typical: 5; Vs Max (V): 28; Vs Min (V): 4; DatasheetVersion: Rev. A; PackageVersion: Rev G; PackageReference: LT-S8-8; PackageDescription: 8-Pin Plastic Small Outline, Body 4.9 x 3.9 mm, Pitch 1.27 mm; SR (V/us) Typical: 250; Type: CFA; Mounting Technology: Surface Mount; ComponentLink1Description: Manufacturer URL; ComponentLink1URL: http://www.linear.com/; ComponentLink2Description: Datasheet; ComponentLink2URL: http://cds.linear.com/docs/en/datasheet/lt1252.pdf; ComponentLink3Description: Package Specification; ComponentLink3URL: http://cds.linear.com/docs/en/packaging/05081610_G_SO8.pdf
footprint LT-S8-8_N (SOIC, 8-Leads, Body 4.9x3.9mm, Pitch 1.27mm, IPC Medium Density)
footprint LT-S8-8_L (SOIC, 8-Leads, Body 4.9x3.9mm, Pitch 1.27mm, IPC High Density)
footprint LT-S8-8_M (SOIC, 8-Leads, Body 4.9x3.9mm, Pitch 1.27mm, IPC Low Density)
part A pins: 2 -IN (in), 3 +IN (in), 4 V- (power), 6 OUT (out), 7 V+ (power)
part B pins: 1 NC, 5 NC, 8 NC

## LT1252CS8#PBF
designator U?
Single Channel, High voltage Video Operational Amplifier, 250 MHz Typical GBW, 250 V/us Typical SR, 4 to 28 V, 8-Pin SOIC (S8-8), Commercial, Pb-Free; Linear Technology Part Number: LT1252; Manufacturer: Linear Technology; PartNumber: LT1252CS8#PBF; Channels (#): 1; GBW (MHz) Typical: 250; Is (mA) Typical: 8.5; Vos (mV) Typical: 5; Vs Max (V): 28; Vs Min (V): 4; DatasheetVersion: Rev. A; PackageVersion: Rev G; PackageReference: LT-S8-8; PackageDescription: 8-Pin Plastic Small Outline, Body 4.9 x 3.9 mm, Pitch 1.27 mm; Supplier 1: Digi-Key; Supplier Part Number 1: LT1252CS8#PBF-ND; Supplier 2: Newark; Supplier Part Number 2: 57M3046; RoHS: Pb-Free; SR (V/us) Typical: 250; Type: CFA; Mounting Technology: Surface Mount; ComponentLink1Description: Manufacturer URL; ComponentLink1URL: http://www.linear.com/; ComponentLink2Description: Datasheet; ComponentLink2URL: http://cds.linear.com/docs/en/datasheet/lt1252.pdf; ComponentLink3Description: Package Specification; ComponentLink3URL: http://cds.linear.com/docs/en/packaging/05081610_G_SO8.pdf
footprint LT-S8-8_N (SOIC, 8-Leads, Body 4.9x3.9mm, Pitch 1.27mm, IPC Medium Density)
footprint LT-S8-8_L (SOIC, 8-Leads, Body 4.9x3.9mm, Pitch 1.27mm, IPC High Density)
footprint LT-S8-8_M (SOIC, 8-Leads, Body 4.9x3.9mm, Pitch 1.27mm, IPC Low Density)
part A pins: 2 -IN (in), 3 +IN (in), 4 V- (power), 6 OUT (out), 7 V+ (power)
part B pins: 1 NC, 5 NC, 8 NC

## LT1252CS8#TR
designator U?
Single Channel, High voltage Video Operational Amplifier, 250 MHz Typical GBW, 250 V/us Typical SR, 4 to 28 V, 8-Pin SOIC (S8-8), Commercial, Reel; Linear Technology Part Number: LT1252; Manufacturer: Linear Technology; PartNumber: LT1252CS8#TR; Channels (#): 1; GBW (MHz) Typical: 250; Is (mA) Typical: 8.5; Vos (mV) Typical: 5; Vs Max (V): 28; Vs Min (V): 4; DatasheetVersion: Rev. A; PackageVersion: Rev G; PackageReference: LT-S8-8; PackageDescription: 8-Pin Plastic Small Outline, Body 4.9 x 3.9 mm, Pitch 1.27 mm; Supplier 1: Digi-Key; Supplier Part Number 1: LT1252CS8#TR-ND; Packing: Reel; SR (V/us) Typical: 250; Type: CFA; Mounting Technology: Surface Mount; ComponentLink1Description: Manufacturer URL; ComponentLink1URL: http://www.linear.com/; ComponentLink2Description: Datasheet; ComponentLink2URL: http://cds.linear.com/docs/en/datasheet/lt1252.pdf; ComponentLink3Description: Package Specification; ComponentLink3URL: http://cds.linear.com/docs/en/packaging/05081610_G_SO8.pdf
footprint LT-S8-8_N (SOIC, 8-Leads, Body 4.9x3.9mm, Pitch 1.27mm, IPC Medium Density)
footprint LT-S8-8_L (SOIC, 8-Leads, Body 4.9x3.9mm, Pitch 1.27mm, IPC High Density)
footprint LT-S8-8_M (SOIC, 8-Leads, Body 4.9x3.9mm, Pitch 1.27mm, IPC Low Density)
part A pins: 2 -IN (in), 3 +IN (in), 4 V- (power), 6 OUT (out), 7 V+ (power)
part B pins: 1 NC, 5 NC, 8 NC